# Altium footprint library LimeFEA-mPCIe_1v0.PcbLib: 31 footprints (part 2 of 2)
Each footprint in its own frame and in the unit in brackets; x right, y up, seen from the top. Pads: shape width x height; smd on the part's side, far side on the other; paste and mask are expansions set on the pad; w line width, h text height; cw(c..) or ccw(c..) is an arc to the next point about the centre after c.
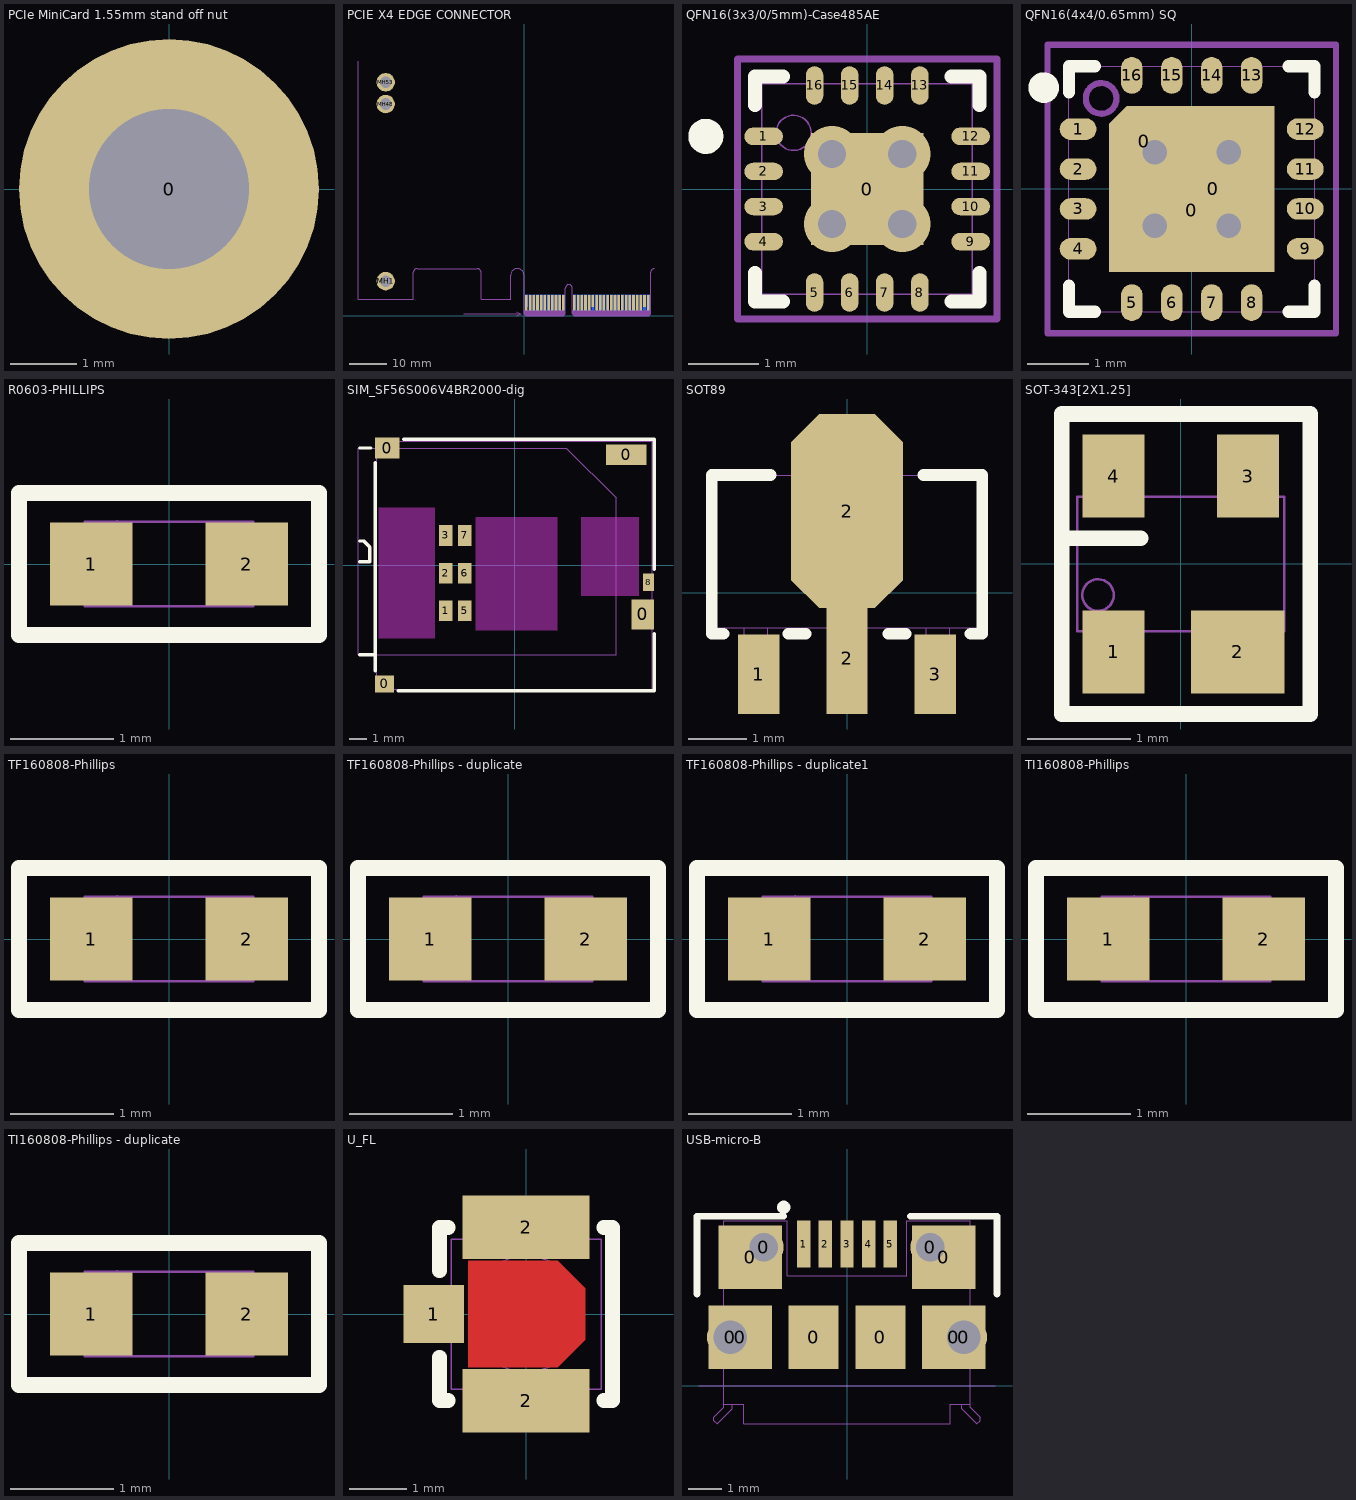
[diagram p1: the footprints below, top view; thin cyan lines are the x and y axes]

## PCIe MiniCard 1.55mm stand off nut [mm] "PCIe MiniCard connector mounting stand off nut"
height 1.55
pads (1):
  round 4.5 hole 2.4: 0(0,0)
Top Paste:
  lines w1: -1.723,-0.304 cw(c0,0) -0.599,1.644 ; -1.125,-1.341 ccw(c0,0) 1.125,-1.341 ; 0.599,1.644 cw(c0,0) 1.723,-0.304
Bottom Solder:
  circle w1.25: c0,0 r0.65
3D body "Soldered M2 stand-off D4 H1.55.stp": height 1.55, standoff -0.6, extent -2.002,-2 1.998,2

## PCIE X4 EDGE CONNECTOR [mm] "Golden finger, PCIe x4, Dual, Staggered, Pitch 1mm, 2x32-Position"
pads (67):
  rect 0.7x3.2 smd far side paste-5: A1(0.65,4)
  rect 0.7x4.2 smd far side paste-5: A2(1.65,3.5) A3(2.65,3.5) A4(3.65,3.5) A5(4.65,3.5) A6(5.65,3.5) A7(6.65,3.5) A8(7.65,3.5) A9(8.65,3.5) A10(9.65,3.5) A11(10.65,3.5) A12(13.65,3.5) A13(14.65,3.5) A14(15.65,3.5) A15(16.65,3.5) A16(17.65,3.5) A17(18.65,3.5) A18(19.65,3.5) A19(20.65,3.5) A20(21.65,3.5) A21(22.65,3.5) A22(23.65,3.5) A23(24.65,3.5) A24(25.65,3.5) A25(26.65,3.5) A26(27.65,3.5) A27(28.65,3.5) A28(29.65,3.5) A29(30.65,3.5) A30(31.65,3.5) A31(32.65,3.5) A32(33.65,3.5)
  rect 0.7x4.2 smd paste-5: B1(0.65,3.5) B2(1.65,3.5) B3(2.65,3.5) B4(3.65,3.5) B5(4.65,3.5) B6(5.65,3.5) B7(6.65,3.5) B8(7.65,3.5) B9(8.65,3.5) B10(9.65,3.5) B11(10.65,3.5) B12(13.65,3.5) B13(14.65,3.5) B14(15.65,3.5) B15(16.65,3.5) B16(17.65,3.5) B18(19.65,3.5) B19(20.65,3.5) B20(21.65,3.5) B21(22.65,3.5) B22(23.65,3.5) B23(24.65,3.5) B24(25.65,3.5) B25(26.65,3.5) B26(27.65,3.5) B27(28.65,3.5) B28(29.65,3.5) B29(30.65,3.5) B30(31.65,3.5) B32(33.65,3.5)
  rect 0.7x3.2 smd paste-5: B17(18.65,4) B31(32.65,4)
  round 5 hole 3.2 paste-5: MH1(-37.5,9.35) MH48(-37.5,57.35) MH53(-37.5,63.25)
Top Solder:
  rectangle: -0.25,-0.25 34.55,5.725
Bottom Solder:
  rectangle: -0.25,-0.25 34.55,5.725
Mechanical 1:
  region: 33.8,0 34.3,0.5 34.3,1.4 23.1,1.4 23.1,0.5 23.6,0
  region: 13.6,0 13.1,0.5 13.1,1.4 24.3,1.4 24.3,0.5 23.8,0
  region: 10.7,0 11.2,0.5 11.2,1.4 0,1.4 0,0.5 0.5,0
  lines w0.15: -16.4,0.5 -0.825,0.5 ; -2.075,1.125 -0.825,0.5 ; -2.025,-0.075 -0.825,0.5
  text "Chamfered area" at -16,0.9 h1
  text "\/ 40 +-5 deg" at -16,-0.8 h1
Mechanical 15:
  circle w0.1: c-37.5,63.25 r1.44
  circle w0.1: c-37.5,9.35 r1.44
  lines w0.1: -45,68.9 -45,4.5 -30,4.5 -30,11.75 cw(c-29,11.75) -29,12.75 -12.65,12.75 cw(c-12.65,11.75) -11.65,11.75 -11.65,4.5 -3.65,4.5 -3.65,10.925 cw(c-1.825,10.925) 0,10.925 0,0.5 0.5,0 10.7,0 11.2,0.5 11.2,7.45 cw(c12.15,7.45) 13.1,7.45 13.1,0.5 13.6,0 33.8,0 34.3,0.5 34.3,11.75 cw(c35.3,11.75) 35.3,12.75 ; -39.75,9.35 -35.25,9.35 ; -39.75,63.25 -35.25,63.25 ; -37.5,7.1 -37.5,11.6 ; -37.5,61 -37.5,65.5

## QFN16(3x3/0/5mm)-Case485AE [mm] "NLAS3899"
height 1
pads (17):
  rect 1.6x1.6 smd paste-1: 0(0,0)
  oval 0.55x0.25 smd mask+0.075: 1(-1.475,0.75) 2(-1.475,0.25) 3(-1.475,-0.25) 4(-1.475,-0.75) 9(1.475,-0.75) 10(1.475,-0.25) 11(1.475,0.25) 12(1.475,0.75)
  oval 0.25x0.55 smd mask+0.075: 5(-0.75,-1.475) 6(-0.25,-1.475) 7(0.25,-1.475) 8(0.75,-1.475) 13(0.75,1.475) 14(0.25,1.475) 15(-0.25,1.475) 16(-0.75,1.475)
via -0.5,-0.5 diameter 0.8 hole 0.4
via 0.5,-0.5 diameter 0.8 hole 0.4
via 0.5,0.5 diameter 0.8 hole 0.4
via -0.5,0.5 diameter 0.8 hole 0.4
Top Overlay:
  circle w0.25: c-2.3,0.75 r0.125
  lines w0.2: -1.6,-1.2 -1.6,-1.6 -1.2,-1.6 ; -1.6,1.2 -1.6,1.6 -1.2,1.6 ; 1.2,-1.6 1.6,-1.6 1.6,-1.2 ; 1.2,1.6 1.6,1.6 1.6,1.2
Top Paste:
  region: 0.1,0.8 0.1,0.1 0.8,0.1 0.8,0.8
  region: 0.8,-0.1 0.1,-0.1 0.1,-0.8 0.8,-0.8
  region: -0.1,-0.8 -0.1,-0.1 -0.8,-0.1 -0.8,-0.8
  rectangle: -0.8,0.1 -0.1,0.8
Top Solder:
  region: -0.9,0.9 -0.9,0.1 -0.1,0.1 -0.1,0.9
  region: 0.9,0.9 0.1,0.9 0.1,0.1 0.9,0.1
  region: 0.9,-0.9 0.9,-0.1 0.1,-0.1 0.1,-0.9
  rectangle: -0.9,-0.9 -0.1,-0.1
Mechanical 1:
  circle w0.02: c-1.05,0.8 r0.25
  lines w0.02: -1.5,-1.5 1.5,-1.5 1.5,1.5 -1.5,1.5 -1.5,-1.5
  text ".Designator" at 0.29,0.2 h0.5
Mechanical 15:
  lines w0.1: -0.5,0 0.5,0 ; 0,-0.5 0,0.5 ; -1.85,-1.85 1.85,-1.85 1.85,1.85 -1.85,1.85 -1.85,-1.85
3D body: height 1, standoff 0, extent -1.5,-1.5 1.5,1.5

## QFN16(4x4/0.65mm) SQ [mm] "QFN, 16-Leads, Body 4,0x4,0mm (SQ), Pitch 0,65mm, IPC High Density"
height 0.9
pads (19):
  oct 1.15x1.15 smd paste+0 mask+0: 0(-0.775,0.775)
  rect 2.7x2 smd paste+0 mask+0: 0(0,-0.35)
  rect 2x2.7 smd paste+0 mask+0: 0(0.35,0)
  oval 0.6x0.35 smd: 1(-1.85,0.975) 2(-1.85,0.325) 3(-1.85,-0.325) 4(-1.85,-0.975) 9(1.85,-0.975) 10(1.85,-0.325) 11(1.85,0.325) 12(1.85,0.975)
  oval 0.35x0.6 smd: 5(-0.975,-1.85) 6(-0.325,-1.85) 7(0.325,-1.85) 8(0.975,-1.85) 13(0.975,1.85) 14(0.325,1.85) 15(-0.325,1.85) 16(-0.975,1.85)
via -0.6,-0.6 diameter 0.8 hole 0.4
via 0.6,-0.6 diameter 0.8 hole 0.4
via 0.6,0.6 diameter 0.8 hole 0.4
via -0.6,0.6 diameter 0.8 hole 0.4
Top Overlay:
  circle w0.25: c-2.411,1.651 r0.125
  lines w0.2: -2,-1.575 -2,-2 -1.575,-2 ; -2,1.575 -2,2 -1.575,2 ; 1.575,-2 2,-2 2,-1.575 ; 1.575,2 2,2 2,1.575
Top Solder:
  region: -1.35,-1.35 -1.35,1.05 -1.05,1.35 1.35,1.35 1.35,-1.35
Mechanical 1:
  circle w0.1: c-1.475,1.475 r0.25
  lines w0.02: -2,-2 -2,2 2,2 2,-2 -2,-2
  text ".Designator" at 0.25,-0.7 h0.5
Mechanical 15:
  lines w0.1: -0.5,0 0.5,0 ; 0,-0.5 0,0.5 ; -2.35,-2.35 2.35,-2.35 2.35,2.35 -2.35,2.35 -2.35,-2.35
3D body: height 0.85, standoff 0, extent -2,-2 2,2
3D body: height 0.86, standoff 0.8, extent -1.723,1.226 -1.225,1.725

## R0603-PHILLIPS [mm]
height 0.55
pads (2):
  rect 0.8x0.8 smd: 1(-0.75,0) 2(0.75,0)
Top Overlay:
  lines w0.152: -1.448,-0.686 1.448,-0.686 1.448,0.686 -1.448,0.686 -1.448,-0.686
Mechanical 1:
  lines w0.025: -0.5,-0.4 -0.5,0.413 ; 0.506,-0.406 0.506,0.406 ; -0.813,-0.406 -0.813,0.406 0.813,0.406 0.813,-0.406 -0.813,-0.406
  text ".Designator" at 0.369,0.262 h0.5
3D body "SW3dPS-0603 SMD Resistor.STEP": height 0.3, standoff 0, extent -0.8,-0.4 0.8,0.4

## SIM_SF56S006V4BR2000-dig [mm] "JAE push-push, micro SIM card holder"
height 1.25
pads (11):
  rect 1.1x1 smd: 0(-7.55,-6.9)
  rect 1.4x1.2 smd: 0(-7.4,6.8)
  rect 2.35x1.2 smd: 0(6.475,6.4)
  rect 1.3x1.75 smd: 0(7.45,-2.87)
  rect 0.8x1.2 smd: 1(-4,-2.66) 2(-4,-0.47) 3(-4,1.72) 5(-2.9,-2.66) 6(-2.9,-0.47) 7(-2.9,1.72)
  rect 0.65x1 smd: 8(7.775,-1)
Top Layer keep-out:
  rectangle: -7.9,-4.275 -4.625,3.35
  rectangle: -2.275,-3.8 2.475,2.8
  rectangle: 3.85,-1.8 7.225,2.8
Top Overlay:
  lines w0.2: -9,-5.2 -8.1,-5.2 ; -9,0.2 -8.425,0.2 -8.425,1.05 -8.775,1.4 -9,1.4 ; -9,6.8 -8.35,6.8 ; -8.1,-6.15 -8.1,5.95 ; -6.75,-7.3 8.1,-7.3 8.1,-4 ; -6.45,7.3 8.1,7.3 8.1,-0.25
Mechanical 1:
  lines w0.02: -9.1,-5.2 5.9,-5.2 5.9,3.9 3,6.8 -9.1,6.8 -9.1,-5.2 ; -8,-7.2 -8,7.2 8,7.2 8,-7.2 -8,-7.2
  text ".Designator" at -0.3,-0.695 h0.5
3D body: height 1.11, standoff 0.3, extent -9.1,-5.2 5.9,6.8
3D body "SIM-push-push_SF56S006V4BR2000.step": height 1.22, standoff -0.03, extent -8,-7.2 8,7.2

## SOT89 [mm] "SOT-89; Body 4.6 x 4.25 mm, inc. leads (LxW max)"
height 1.6
pads (4):
  rect 0.7x1.35 smd: 1(-1.5,-1.388) 3(1.5,-1.388)
  rect 0.7x1.9 smd: 2(0,-1.112)
  oct 1.9x3.3 smd: 2(0,1.388)
Top Overlay:
  lines w0.2: -2.1,-0.7 -2.3,-0.7 -2.3,2 -1.3,2 ; -1,-0.7 -0.7,-0.7 ; 0.7,-0.7 1,-0.7 ; 1.3,2 2.3,2 2.3,-0.7 2.1,-0.7
Mechanical 1:
  lines w0.02: -1.75,-0.6 -1.75,-1.6 -1.35,-1.6 -1.35,-0.6 ; -0.9,2 -0.9,2.3 -0.6,2.6 0.6,2.6 0.9,2.3 0.9,2 ; -0.25,-0.6 -0.25,-1.6 0.25,-1.6 0.25,-0.6 ; 1.35,-0.6 1.35,-1.6 1.75,-1.6 1.75,-0.6 ; -2.3,-0.6 2.3,-0.6 2.3,2 -2.3,2 -2.3,-0.6
  text ".Designator" at -0.3,1.587 h0.5
3D body "SOT-89.step": height 1.4, standoff 0, extent -2.25,-1.435 2.25,2.5

## SOT-343[2X1.25] [mm]
height 1
pads (4):
  rect 0.6x0.8 smd: 1(-0.65,-0.85) 3(0.65,0.85) 4(-0.65,0.85)
  rect 0.9x0.8 smd: 2(0.55,-0.85)
Top Overlay:
  lines w0.152: -1.15,0.25 -0.388,0.25 ; -1.15,-1.45 -1.15,1.45 1.25,1.45 1.25,-1.45 -1.15,-1.45
Mechanical 1:
  circle w0.025: c-0.8,-0.3 r0.152
  lines w0.025: -0.8,-0.65 -0.8,-1.05 -0.5,-1.05 -0.5,-0.65 ; -0.8,0.65 -0.8,1.05 -0.5,1.05 -0.5,0.65 ; -0.75,-1.05 -0.55,-1.05 ; 0.2,-0.65 0.2,-1.05 0.8,-1.05 0.8,-0.65 ; 0.5,0.65 0.5,1.05 0.8,1.05 0.8,0.65 ; -1,-0.65 -1,0.65 1,0.65 1,-0.65 -1,-0.65
  text ".Designator" at 0.975,0.225 h0.5
3D body "SOT343R.STEP": height 0.9, standoff -0.05, extent -1,-1.075 1,1.025

## TF160808-Phillips [mm]
height 0.55
pads (2):
  rect 0.8x0.8 smd: 1(-0.75,0) 2(0.75,0)
Top Overlay:
  lines w0.152: -1.448,-0.686 -1.448,0.686 1.448,0.686 1.448,-0.686 -1.448,-0.686
Mechanical 1:
  lines w0.025: -0.5,-0.4 -0.5,0.413 ; 0.506,-0.406 0.506,0.406 ; -0.813,-0.406 0.813,-0.406 0.813,0.406 -0.813,0.406 -0.813,-0.406
  text ".Designator" at 0.738,0.275 h0.5
3D body: height 0.9, standoff 0, extent 0.4,-0.45 0.85,0.45
3D body: height 0.85, standoff 0, extent -0.4,-0.425 0.4,0.425
3D body: height 0.9, standoff 0, extent -0.856,-0.45 -0.4,0.45

## TF160808-Phillips - duplicate [mm]
height 0.55
pads (2):
  rect 0.8x0.8 smd: 1(-0.75,0) 2(0.75,0)
Top Overlay:
  lines w0.152: -1.448,-0.686 1.448,-0.686 1.448,0.686 -1.448,0.686 -1.448,-0.686
Mechanical 1:
  lines w0.025: -0.5,-0.4 -0.5,0.413 ; 0.506,-0.406 0.506,0.406 ; -0.813,-0.406 -0.813,0.406 0.813,0.406 0.813,-0.406 -0.813,-0.406
  text ".Designator" at -0.7,-0.275 h0.5
3D body: height 0.9, standoff 0, extent -0.856,-0.45 -0.4,0.45
3D body: height 0.85, standoff 0, extent -0.4,-0.425 0.4,0.425
3D body: height 0.9, standoff 0, extent 0.4,-0.45 0.85,0.45

## TF160808-Phillips - duplicate1 [mm]
height 0.55
pads (2):
  rect 0.8x0.8 smd: 1(-0.75,0) 2(0.75,0)
Top Overlay:
  lines w0.152: -1.448,-0.686 1.448,-0.686 1.448,0.686 -1.448,0.686 -1.448,-0.686
Mechanical 1:
  lines w0.025: -0.5,-0.4 -0.5,0.413 ; 0.506,-0.406 0.506,0.406 ; -0.813,-0.406 -0.813,0.406 0.813,0.406 0.813,-0.406 -0.813,-0.406
  text ".Designator" at -0.7,-0.275 h0.5
3D body: height 0.9, standoff 0, extent -0.856,-0.45 -0.4,0.45
3D body: height 0.85, standoff 0, extent -0.4,-0.425 0.4,0.425
3D body: height 0.9, standoff 0, extent 0.4,-0.45 0.85,0.45

## TI160808-Phillips [mm]
height 0.55
pads (2):
  rect 0.8x0.8 smd: 1(-0.75,0) 2(0.75,0)
Top Overlay:
  lines w0.152: -1.448,-0.686 -1.448,0.686 1.448,0.686 1.448,-0.686 -1.448,-0.686
Mechanical 1:
  lines w0.025: -0.5,-0.4 -0.5,0.413 ; 0.506,-0.406 0.506,0.406 ; -0.813,-0.406 0.813,-0.406 0.813,0.406 -0.813,0.406 -0.813,-0.406
  text ".Designator" at -0.25,-0.285 h0.5
3D body: height 0.9, standoff 0, extent 0.4,-0.45 0.85,0.45
3D body: height 0.85, standoff 0, extent -0.4,-0.425 0.4,0.425
3D body: height 0.9, standoff 0, extent -0.856,-0.45 -0.4,0.45

## TI160808-Phillips - duplicate [mm]
height 0.55
pads (2):
  rect 0.8x0.8 smd: 1(-0.75,0) 2(0.75,0)
Top Overlay:
  lines w0.152: -1.448,-0.686 1.448,-0.686 1.448,0.686 -1.448,0.686 -1.448,-0.686
Mechanical 1:
  lines w0.025: -0.5,-0.4 -0.5,0.413 ; 0.506,-0.406 0.506,0.406 ; -0.813,-0.406 -0.813,0.406 0.813,0.406 0.813,-0.406 -0.813,-0.406
  text ".Designator" at -0.25,-0.285 h0.5
3D body: height 0.9, standoff 0, extent -0.856,-0.45 -0.4,0.45
3D body: height 0.85, standoff 0, extent -0.4,-0.425 0.4,0.425
3D body: height 0.9, standoff 0, extent 0.4,-0.45 0.85,0.45

## U_FL [mm] "Ultraminiature Coax Connector (UMCC)"
height 0.9
pads (3):
  rect 1.05x1 smd: 1(-1.6,0)
  rect 2.2x1.1 smd: 2(0,-1.5) 2(0,1.5)
Top Layer:
  pour cut-out: -1,0.925 0.55,0.925 1.025,0.45 1.025,-0.45 0.55,-0.925 -1,-0.925
Top Overlay:
  lines w0.254: -1.5,-0.75 -1.5,-1.5 -1.35,-1.5 ; -1.5,0.75 -1.5,1.5 -1.35,1.5 ; 1.35,-1.5 1.5,-1.5 1.5,1.5 1.35,1.5
Mechanical 1:
  circle w0.025: c0,0 r1
  circle w0.025: c0,0 r0.25
  lines w0.025: -1.3,-1.3 -1.3,1.3 1.3,1.3 1.3,-1.3 -1.3,-1.3
  text ".Designator" at -0.475,-0.85 h0.5
3D body "U.FL-R-SMT-1.STEP": height 1.25, standoff 0, extent -1.55,-1.5 1.3,1.5

## USB-micro-B [mm] "Molex 105017-0001"
height 2.8
pads (15):
  round 1.4 hole 1: 0(-3.5,1.45) 0(3.5,1.45)
  rect 1.9x1.9 smd: 0(-3.2,1.45) 0(-2.9,3.85) 0(2.9,3.85) 0(3.2,1.45)
  round 1.2 hole 0.85: 0(-2.5,4.15) 0(2.5,4.15)
  rect 1.5x1.9 smd: 0(-1,1.45) 0(1,1.45)
  rect 0.4x1.4 smd mask+0.074: 1(-1.3,4.25) 2(-0.65,4.25) 3(0,4.25) 4(0.65,4.25) 5(1.3,4.25)
Top Overlay:
  circle w0.2: c-1.9,5.35 r0.1
  lines w0.2: -4.5,2.75 -4.5,5.08 -1.9,5.08 ; 1.9,5.08 4.5,5.08 4.5,2.75
Mechanical 1:
  lines w0.02: -4.45,0 4.45,0 ; -3.45,-0.55 -3.45,-0.7 -3.9,-1.15 -4,-1.05 -4,-0.95 -3.7,-0.65 -3.7,-0.55 ; 3.45,-0.55 3.45,-0.7 3.9,-1.15 4,-1.05 4,-0.95 3.7,-0.65 3.7,-0.55 ; -3.7,-0.55 -3.1,-0.55 -3.1,-1.15 0,-1.15 3.1,-1.15 3.1,-0.55 3.7,-0.55 ; -3.7,-0.55 -3.7,4.95 -1.8,4.95 -1.8,3.3 0,3.3 1.8,3.3 1.8,4.95 3.7,4.95 3.7,-0.55
  text ".Designator" at 0.375,3.15 h0.5
  text "PCB Edge" at -5.25,0.2 h0.25
  text "1" at -1.3,3.75 h0.5
  text "5" at 1.1,3.85 h0.5
3D body "MicroUSB-B_Molex_105017-0001.stp": height 2.7, standoff -0.61, extent -4.1,-1.13 4.1,4.3